# Altium footprint library 35318-0420.PcbLib: 2 footprints
Each footprint in its own frame and in the unit in brackets; x right, y up, seen from the top. Pads: shape width x height; smd on the part's side, far side on the other; paste and mask are expansions set on the pad; w line width, h text height; cw(c..) or ccw(c..) is an arc to the next point about the centre after c.
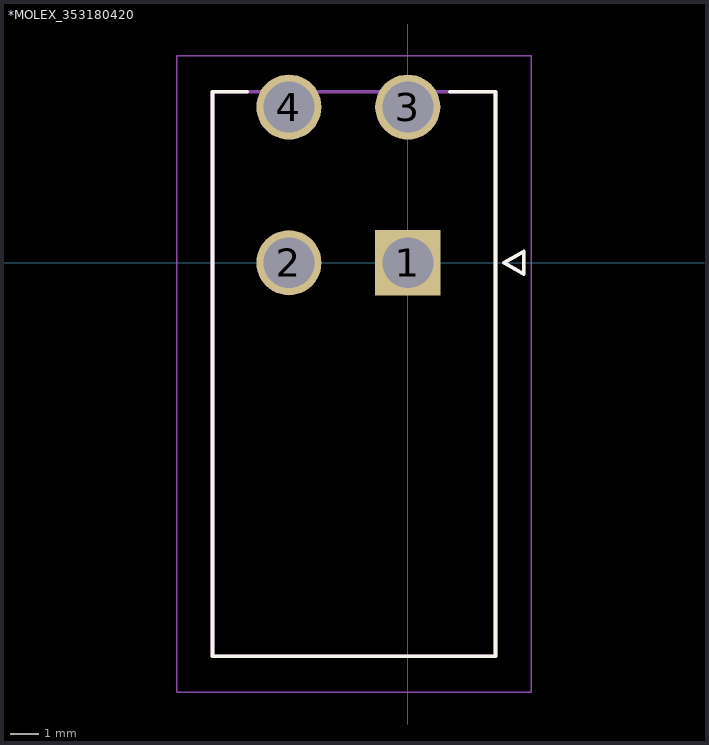
[diagram p0: the footprints below, top view; thin cyan lines are the x and y axes]

## *MOLEX_353180420 [mm]
pads (4):
  rect 2.3x2.3 hole 1.8: 1(0,0)
  round 2.3 hole 1.8: 2(-4.2,0) 3(0,5.5) 4(-4.2,5.5)
Top Overlay:
  lines w0.127: -5.676,6.04 -6.9,6.04 -6.9,-13.9 3.1,-13.9 3.1,6.04 1.476,6.04 ; 3.397,0 4.097,-0.4 4.097,0.4 3.397,0
Top Solder:
  circle w1.226: c-4.2,5.5 r0.613
  circle w1.226: c0,5.5 r0.613
  circle w1.226: c-4.2,0 r0.613
  region: -1.226,1.226 1.226,1.226 1.226,-1.226 -1.226,-1.226
Bottom Solder:
  circle w1.226: c-4.2,5.5 r0.613
  circle w1.226: c0,5.5 r0.613
  circle w1.226: c-4.2,0 r0.613
  region: -1.226,1.226 1.226,1.226 1.226,-1.226 -1.226,-1.226
Mechanical 4:
  lines w0.127: -6.9,-13.9 3.1,-13.9 ; -6.9,-13.9 -6.9,6.04 ; -6.9,-13.9 3.1,-13.9 ; -6.9,-13.9 -6.9,6.04 ; -6.9,6.04 3.1,6.04 ; -6.9,6.04 3.1,6.04 ; 3.1,-13.9 3.1,6.04 ; 3.1,-13.9 3.1,6.04 ; 3.397,0 4.097,-0.4 ; 3.397,0 4.097,0.4 ; 3.397,0 4.097,-0.4 ; 3.397,0 4.097,0.4 ; 4.097,-0.4 4.097,0.4 ; 4.097,-0.4 4.097,0.4
  text "PTH D1.80 +/- 0.05" at -7.535,7.803 h1.88
  text "PTH D1.80 +/- 0.05" at -7.535,7.803 h1.88
Mechanical 16:
  lines w0.05: -8.17,-15.17 4.37,-15.17 4.37,7.31 -8.17,7.31 -8.17,-15.17
3D body "353180420--3DModel-STEP-390490.STEP": height 6.4, standoff -9, extent -6.959,-13.893 3.038,6.042

## PCBComponent_1 [mm]